# EAGLE library part INA21* (library ic-TI)
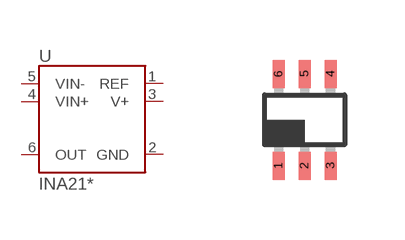
[diagram p30: symbol with the pads of SC70-6; footprint SC70-6]

Designator prefix U

## INA210 (GAIN: 200), INA211 (GAIN: 500), INA212 (GAIN: 1000), INA213 (GAIN: 50), INA214 (GAIN: 100)  [SC70-6]
1  REF  in
2  GND  in
3  V+  in
4  VIN+  in
5  VIN-  in
6  OUT  out

## Footprint SC70-6 (pad centres in mm)
smd 0.3 x 0.7: 1 -0.65,-1.15; 2 0,-1.15; 3 0.65,-1.15; 4 0.65,1.15; 5 0,1.15; 6 -0.65,1.15